# Altium footprint library AUV3SQ320RT0K.PcbLib: 1 footprints
Each footprint in its own frame and in the unit in brackets; x right, y up, seen from the top. Pads: shape width x height; smd on the part's side, far side on the other; paste and mask are expansions set on the pad; w line width, h text height; cw(c..) or ccw(c..) is an arc to the next point about the centre after c.
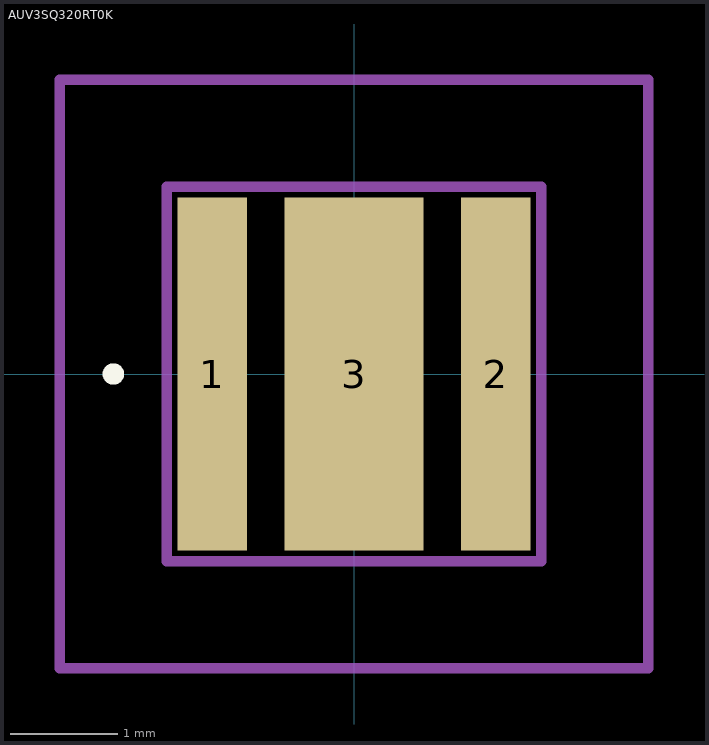
[diagram p0: the footprint, top view; thin cyan lines are the x and y axes]

## AUV3SQ320RT0K [mm]
pads (3):
  rect 0.65x3.3 smd: 1(-1.325,0) 2(1.325,0)
  rect 1.3x3.3 smd: 3(0,0)
Top Overlay:
  lines w0.1: -2.3,0 -2.3,0 ; -2.3,0 ccw(c-2.25,0) -2.2,0 ; -2.3,0 cw(c-2.25,0) -2.2,0 ; -2.2,0 -2.2,0
Mechanical 15:
  lines w0.1: -1.75,-1.75 1.75,-1.75 1.75,1.75 -1.75,1.75 -1.75,-1.75
Mechanical 20:
  lines w0.1: -2.75,-2.75 2.75,-2.75 2.75,2.75 -2.75,2.75 -2.75,-2.75